# EAGLE library part REF3230 (library SparkFun-AnalogIC)
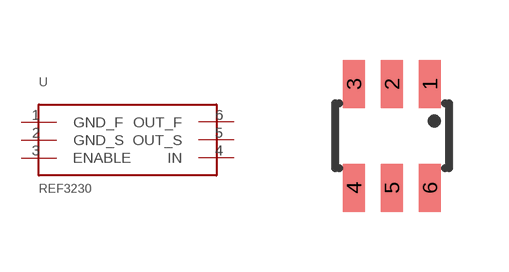
[diagram p51: symbol with the pads of SOT23-6; footprint SOT23-6]

Designator prefix -

## REF3230  [SOT23-6]
1  GND_F
2  GND_S
3  ENABLE
4  IN
5  OUT_S
6  OUT_F

## Footprint SOT23-6 (pad centres in mm)
smd 0.55 x 1.2: 1 0.95,1.3; 2 0,1.3; 3 -0.95,1.3; 4 -0.95,-1.3; 5 0,-1.3; 6 0.95,-1.3